# Altium schematic symbol library BMS.SchLib: 68 symbols (part 2 of 4)
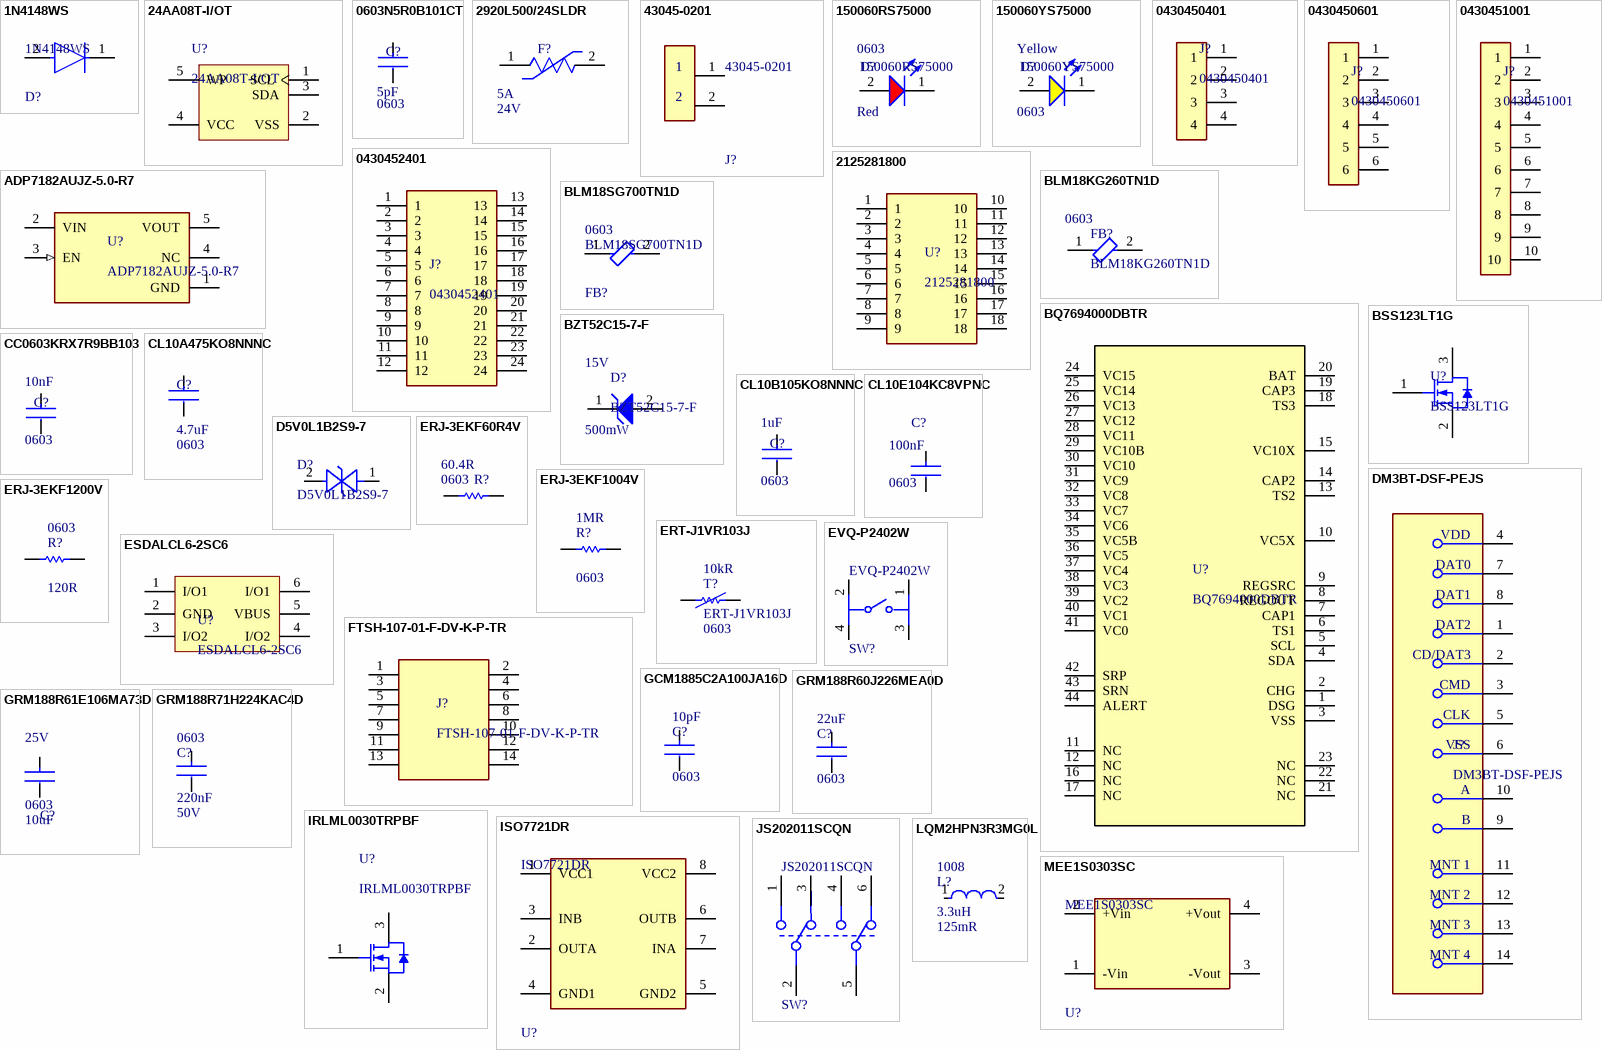
[diagram p2: symbols 1N4148WS to MEE1S0303SC]

## CL10B105KO8NNNC
designator C?  value 1uF  Case/Package: 0603  (hidden comment: CL10B105KO8NNNC)
CAP CER 1UF 16V X7R 0603; Manufacturer: Samsung; Dielectric Material: Ceramic; Multilayer: Yes; Tolerance  (fill in as +-): 10%; Supplier: Digikey; Supplier Part Number: 1276-1019-1-ND; Manufacturer Part Number: CL10B105KO8NNNC; RoHS: Yes; Category: Ceramic Capacitors; Stock: 3702903; Pricing: 1=0.08, 10=0.018, 100=0.0152, 1000=0.012 (USD); Mounting Technology: Surface Mount; Pins: 2; Package Shape: Rectangular; Terminal Finish: Nickel; Min Operating Temperature: -55°C; Max Operating Temperature: 125°C; JESD-609 Code: e3; Termination: Wraparound; Capacitor Type: Ceramic; Packaging: Tape and Reel; Tolerance (fill in as +-): 10%; Rated DC Voltage (URdc): 16V; Temperature Characteristics Code: X7R; Reach SVHC Compliant: Yes; RoHS Compliant: Yes; ComponentLink1URL: https://datasheet.ciiva.com:443/pdfs/VipMasterIC/IC/SEMS/SEMS-S-A0008529196/SEMS-S-A0008529196-1.pdf?src-supplier=IHS+Markit; ComponentLink1Description: https://datasheet.ciiva.com:443/pdfs/VipMasterIC/IC/SEMS/SEMS-S-A0008529196/SEMS-S-A0008529196-1.pdf?src-supplier=IHS+Markit; ComponentLink2URL: https://datasheet.ciiva.com/15195/getdatasheetpartid-357418-15195728.pdf?src-supplier=Verical; ComponentLink2Description: https://datasheet.ciiva.com/15195/getdatasheetpartid-357418-15195728.pdf?src-supplier=Verical; ComponentLink3URL: https://datasheet.ciiva.com/29198/458176-da-01-en-vs-kondensator-0603-29198478.pdf?src-supplier=Conrad; ComponentLink3Description: https://datasheet.ciiva.com/29198/458176-da-01-en-vs-kondensator-0603-29198478.pdf?src-supplier=Conrad
footprint C0603-V2
pins: 1, 2

## CL10E104KC8VPNC
designator C?  value 100nF  Case: 0603  (hidden comment: CL10E104KC8VPNC)
CAP CER 100NF 100V X8L 0603; Manufacturer: Samsung; Supplier: Digikey; Supplier Part Number: 1276-CL10E104KC8VPNCCT-ND; Manufacturer Part Number: CL10E104KC8VPNC; RoHS: No; Stock: 47712; Pricing: 1=0.27, 10=0.155, 50=0.1104, 100=0.0966, 500=0.07306, 1000=0.06573 (USD)
footprint C0603-V2
pins: 1, 2

## D5V0L1B2S9-7
designator D?
TVS DIODE 5VWM 14VC SOD923; Mfr_Name: Diodes Inc; Manufacturer: Diodes; Diode Element Material: SILICON; Package Body Material: Plastic; Polarity: Bidirectional; Max Breakdown Voltage: 8V; Min Breakdown Voltage: 6V; Diode Type: TRANS VOLTAGE SUPPRESSOR; Non-rep Peak Rev Power Dis-Max: 84W; Number of Elements: 1; Max Power Dissipation: 250mW; Rep Pk Reverse Voltage-Max: 5V; Supplier: Digikey; Supplier Part Number: D5V0L1B2S9-7DICT-ND; Manufacturer Part Number: D5V0L1B2S9-7; RoHS: Yes; Category: TVS Diodes; Stock: 757815; Pricing: 1=0.16, 10=0.109, 100=0.048, 500=0.043, 1000=0.038, 2000=0.037, 5000=0.036 (USD); Pins: 2; Package Shape: Rectangular; Terminal Finish: Tin; Min Operating Temperature: -65°C; Max Operating Temperature: 150°C; JESD-609 Code: e3; JESD-30 Code: R-PDSO-F2; Moisture Sensitivity Level: 1; Package Style: SMALL OUTLINEMeter; Surface Mount: Yes; Technology: AVALANCHE; Terminal Form: Flat; Terminal Position: DUAL; Reach SVHC Compliant: Yes; RoHS Compliant: Yes; ComponentLink1URL: https://datasheet.ciiva.com:443/pdfs/VipMasterIC/IC/DIOD/DIOD-S-A0001248739/DIOD-S-A0001248739-1.pdf?src-supplier=IHS+Markit; ComponentLink1Description: https://datasheet.ciiva.com:443/pdfs/VipMasterIC/IC/DIOD/DIOD-S-A0001248739/DIOD-S-A0001248739-1.pdf?src-supplier=IHS+Markit; ComponentLink2URL: https://datasheet.ciiva.com/48480/d5v0l1b2s9-48480055.pdf?src-supplier=Avnet; ComponentLink2Description: https://datasheet.ciiva.com/48480/d5v0l1b2s9-48480055.pdf?src-supplier=Avnet
footprint SOD923_DIO
pins: 1, 2

## DM3BT-DSF-PEJS
designator J?
CONN MICRO SD CARD PUSH-PUSH R/A; Manufacturer: Hirose; Connector Type: PCB; Option: General Purpose; Contact Pattern: RECTANGULAR; Contact Resistance: 100mR; Contact Style: COMPRESSION; Dielectric Withstanding Voltage (AC): 500V; Durability: 10000Cycles; Insulation Resistance: 1GR; Number Of Connectors: 1; Rated Current (Signal): 500mA; Number of Contacts: 8; Reference Standard: UL; DIN Conformance: No; Reliability: COMMERCIAL; Supplier: Digikey; Supplier Part Number: HR1942CT-ND; Manufacturer Part Number: DM3BT-DSF-PEJS; RoHS: Yes; Category: Memory Connectors; Stock: 2793; Pricing: 1=2.3, 10=1.874, 25=1.728, 50=1.6246, 100=1.5278, 250=1.40852, 500=1.32456 (USD); Mounting Technology: Board; Contact Material: Copper Alloy; Contact Finish - Mating: TIN; Contact Finish - Termination: TIN; Insulation Color: Black; Insulation Material: Polymer; Min Operating Temperature: -25°C; Max Operating Temperature: 85°C; JESD-609 Code: e3; Contact Gender: Male; Mounting Style: RIGHT ANGLE; Number Of PCB Rows: 1; Number of Ports: 1; Number of Rows Loaded: 1; PCB Contact Pattern: RECTANGULAR; Termination: SMD/SMT; Terminal Pitch: 1.0922mm; Reach SVHC Compliant: Yes; RoHS Compliant: Yes; IEC Conformance: No; MIL Conformance: No; ComponentLink1URL: https://datasheet.ciiva.com:443/pdfs/VipMasterIC/IC/HIRO/HIRO-S-A0003496442/HIRO-S-A0003496442-1.pdf?src-supplier=IHS+Markit; ComponentLink1Description: https://datasheet.ciiva.com:443/pdfs/VipMasterIC/IC/HIRO/HIRO-S-A0003496442/HIRO-S-A0003496442-1.pdf?src-supplier=IHS+Markit; ComponentLink2URL: https://datasheet.ciiva.com/683/doc-1806131255093-683387.pdf?src-supplier=Digikey; ComponentLink2Description: https://datasheet.ciiva.com/683/doc-1806131255093-683387.pdf?src-supplier=Digikey
footprint FP-DM3BT-DSF-PEJS-MFG
pins: 1 DAT2, 2 CD/DAT3, 3 CMD, 4 VDD, 5 CLK, 6 VSS, 7 DAT0, 8 DAT1, 9 B, 10 A, 11 MNT 1, 12 MNT 2, 13 MNT 3, 14 MNT 4

## ERJ-3EKF60R4V
designator R?  value 60.4R  Case/Package: 0603  (hidden comment: ERJ-3EKF60R4V)
RES SMD 60.4 OHM 1% 1/10W 0603; Manufacturer: Panasonic; Power Rating: 100mW; Voltage Rating: 75V; Temperature Coefficient: 100ppm/°C; Voltage Rating (DC): 50V; Supplier: Mouser; Supplier Part Number: 667-ERJ-3EKF60R4V; Manufacturer Part Number: ERJ-3EKF60R4V; RoHS: Yes; Category: Chip SMD Resistors; Stock: 70552; Pricing: 1=0.1, 10=0.019, 50=0.019, 100=0.012, 1000=0.009, 10000=0.005 (USD); Mounting Technology: Surface Mount; Case Code (Metric): 1608; Case Code (Imperial): 0603; Contact Plating: Tin; Min Operating Temperature: -55°C; Max Operating Temperature: 155°C; Tolerance: 1%; Packaging: Tape and Reel; Package Quantity: 1; Resistor Type: Thick Film; Number of Terminations: 2; Termination: SMD/SMT; Max Power Dissipation: 100mW; Features: Automotive AEC-Q200; Series: ERJ; Construction: Rectangular; Resistance Tolerance: 1%; Length: 1.6mm; Width: 0.8mm; Height: 0.022inch; Depth: 0.8mm; Reach SVHC Compliant: No; Military Standard: Not; Lead Free: Lead Free; RoHS Compliant: Yes; ComponentLink1URL: https://datasheet.ciiva.com/5951/426256-5951371.pdf?src-supplier=Farnell; ComponentLink1Description: https://datasheet.ciiva.com/5951/426256-5951371.pdf?src-supplier=Farnell; ComponentLink2URL: https://datasheet.ciiva.com/43460/426256-43460428.pdf?src-supplier=Farnell; ComponentLink2Description: https://datasheet.ciiva.com/43460/426256-43460428.pdf?src-supplier=Farnell; ComponentLink3URL: https://datasheet.ciiva.com/24068/aoa0000ce2-24068761.pdf?src-supplier=Mouser; ComponentLink3Description: https://datasheet.ciiva.com/24068/aoa0000ce2-24068761.pdf?src-supplier=Mouser; ComponentLink4URL: https://datasheet.ciiva.com/46377/426256-46377437.pdf?src-supplier=Element14; ComponentLink4Description: https://datasheet.ciiva.com/46377/426256-46377437.pdf?src-supplier=Element14; ComponentLink5URL: https://datasheet.ciiva.com/30163/aoa0000ce2-30163208.pdf?src-supplier=Onlinecomponents.com; ComponentLink5Description: https://datasheet.ciiva.com/30163/aoa0000ce2-30163208.pdf?src-supplier=Onlinecomponents.com; ComponentLink6URL: https://datasheet.ciiva.com/28594/1678782-28594695.pdf?src-supplier=Element14; ComponentLink6Description: https://datasheet.ciiva.com/28594/1678782-28594695.pdf?src-supplier=Element14; ComponentLink7URL: https://datasheet.ciiva.com/28677/1678782-28677676.pdf?src-supplier=Element14; ComponentLink7Description: https://datasheet.ciiva.com/28677/1678782-28677676.pdf?src-supplier=Element14; ComponentLink8URL: https://datasheet.ciiva.com/16757/70260748-16757877.pdf?src-supplier=Allied+Electronics; ComponentLink8Description: https://datasheet.ciiva.com/16757/70260748-16757877.pdf?src-supplier=Allied+Electronics; ComponentLink9URL: https://datasheet.ciiva.com/16783/70260748-16783402.pdf?src-supplier=Allied+Electronics; ComponentLink9Description: https://datasheet.ciiva.com/16783/70260748-16783402.pdf?src-supplier=Allied+Electronics
footprint R0603 (Chip Resistor, 2-Leads, Body 1.60x0.80mm, IPC Low Density)
pins: 1, 2

## ERJ-3EKF1004V
designator R?  value 1MR  Case/Package: 0603  (hidden comment: ERJ-3EKF1004V)
RES SMD 1M OHM 1% 1/10W 0603; Manufacturer: Panasonic; Power: 100mW; Rated Temperature: 70°C; Working Voltage: 75V; Temperature Coefficient (ppm/Cel): 100; Package Height: 0.45mm; Package Length: 1.6mm; Package Width: 0.8mm; Reference Standard: AEC-Q200; Supplier: Mouser; Supplier Part Number: 667-ERJ-3EKF1004V; Manufacturer Part Number: ERJ-3EKF1004V; RoHS: Yes; Category: Chip SMD Resistors; Stock: 176408; Pricing: 1=0.1, 10=0.02, 50=0.02, 100=0.012, 1000=0.01, 10000=0.004 (USD); Mounting Technology: Surface Mount; Pins: 2; Terminal Finish: Nickel; Package Shape: Rectangular; Min Operating Temperature: -55°C; Max Operating Temperature: 155°C; Tolerance: 1%; JESD-609 Code: e3; Resistor Type: FIXED RESISTOR; Construction: Rectangular; Packaging: Tape and Reel; Technology: METAL GLAZE/THICK FILM; Termination: Wraparound; Reach SVHC Compliant: Yes; RoHS Compliant: Yes; ComponentLink1URL: https://datasheet.ciiva.com:443/pdfs/VipMasterIC/IC/PANA/PANA-S-A0009889626/PANA-S-A0009889626-1.pdf?src-supplier=IHS+Markit; ComponentLink1Description: https://datasheet.ciiva.com:443/pdfs/VipMasterIC/IC/PANA/PANA-S-A0009889626/PANA-S-A0009889626-1.pdf?src-supplier=IHS+Markit; ComponentLink2URL: https://datasheet.ciiva.com/2432/aoa0000c304-2432473.pdf?src-supplier=Digikey; ComponentLink2Description: https://datasheet.ciiva.com/2432/aoa0000c304-2432473.pdf?src-supplier=Digikey
footprint R0603 (Chip Resistor, 2-Leads, Body 1.60x0.80mm, IPC Low Density)
pins: 1, 2

## ERJ-3EKF1200V
designator R?  value 120R  Case/Package: 0603  (hidden comment: ERJ-3EKF1200V)
RES SMD 120 OHM 1% 1/10W 0603; Manufacturer: Panasonic; Number of Terminals/Pins: 2; Power Rating: 100mW; Voltage Rating: 75V; Temperature Coefficient: 100ppm/°C; Supplier Part Number: 667-ERJ-3EKF1200V; Manufacturer Part Number: ERJ-3EKF1200V; RoHS: Yes; Category: Chip SMD Resistors; Stock: 58380; Pricing: 1=0.1, 10=0.02, 50=0.02, 100=0.012, 1000=0.009, 10000=0.005 (USD); Mounting Technology: Surface Mount; Pins: 2; Case Code (Metric): 1608; Case Code (Imperial): 0603; Contact Plating: Tin; Package Shape: Rectangular; Min Operating Temperature: -55°C; Max Operating Temperature: 155°C; Tolerance: 1%; Packaging: Tape and Reel; Package Quantity: 5000; Resistor Type: Thick Film; Number of Terminations: 2; Termination: SMD/SMT; Max Power Dissipation: 100mW; Voltage Rating (DC): 75V; Features: Automotive AEC-Q200; Technology: THICK FILM; Length: 1.6mm; Width: 0.8mm; Height: 0.45mm; Depth: 0.8mm; Radiation Hardening: No; Reach SVHC Compliant: Yes; Military Standard: Not; Lead Free: Lead Free; RoHS Compliant: Yes; ComponentLink1URL: http://www.farnell.com/datasheets/2647305.pdf?src-supplier=Farnell; ComponentLink1Description: http://www.farnell.com/datasheets/2647305.pdf?src-supplier=Farnell; ComponentLink2URL: http://www.farnell.com/datasheets/1911175.pdf?src-supplier=Farnell; ComponentLink2Description: http://www.farnell.com/datasheets/1911175.pdf?src-supplier=Farnell; ComponentLink3URL: http://www.farnell.com/datasheets/2647305.pdf?src-supplier=Element14; ComponentLink3Description: http://www.farnell.com/datasheets/2647305.pdf?src-supplier=Element14; ComponentLink4URL: https://datasheet.octopart.com/ERJ-3EKF1200V-Panasonic-datasheet-10025800.pdf?src-supplier=Element14; ComponentLink4Description: https://datasheet.octopart.com/ERJ-3EKF1200V-Panasonic-datasheet-10025800.pdf?src-supplier=Element14; ComponentLink5URL: https://datasheet.octopart.com/ERJ-3EKF1200V.-Panasonic-datasheet-136422778.pdf?src-supplier=Newark; ComponentLink5Description: https://datasheet.octopart.com/ERJ-3EKF1200V.-Panasonic-datasheet-136422778.pdf?src-supplier=Newark; ComponentLink6URL: http://industrial.panasonic.com/cdbs/www-data/pdf/RDA0000/AOA0000C304.pdf?src-supplier=Element14; ComponentLink6Description: http://industrial.panasonic.com/cdbs/www-data/pdf/RDA0000/AOA0000C304.pdf?src-supplier=Element14; ComponentLink7URL: http://www.farnell.com/datasheets/1678782.pdf?src-supplier=Element14; ComponentLink7Description: http://www.farnell.com/datasheets/1678782.pdf?src-supplier=Element14; ComponentLink8URL: http://industrial.panasonic.com/www-data/pdf/AOA0000/AOA0000CE2.pdf?src-supplier=Avnet; ComponentLink8Description: http://industrial.panasonic.com/www-data/pdf/AOA0000/AOA0000CE2.pdf?src-supplier=Avnet; ComponentLink9URL: https://datasheet.octopart.com/ERJ-3EKF1200V-Panasonic-datasheet-13266541.pdf?src-supplier=Farnell; ComponentLink9Description: https://datasheet.octopart.com/ERJ-3EKF1200V-Panasonic-datasheet-13266541.pdf?src-supplier=Farnell; ComponentLink10URL: https://datasheet.octopart.com/ERJ3EKF1200V-Panasonic-datasheet-138819429.pdf?src-supplier=TME; ComponentLink10Description: https://datasheet.octopart.com/ERJ3EKF1200V-Panasonic-datasheet-138819429.pdf?src-supplier=TME; ComponentLink11URL: https://datasheet.octopart.com/ERJ-3EKF1200V-Panasonic-datasheet-154766169.pdf?src-supplier=Master+Electronics; ComponentLink11Description: https://datasheet.octopart.com/ERJ-3EKF1200V-Panasonic-datasheet-154766169.pdf?src-supplier=Master+Electronics; ComponentLink12URL: https://datasheet.octopart.com/ERJ-3EKF1200V-Panasonic-datasheet-41391857.pdf?src-supplier=Electro+Sonic; ComponentLink12Description: https://datasheet.octopart.com/ERJ-3EKF1200V-Panasonic-datasheet-41391857.pdf?src-supplier=Electro+Sonic; Supplier: Mouser
footprint R0603 (Chip Resistor, 2-Leads, Body 1.60x0.80mm, IPC Low Density)
pins: 1, 2

## ERT-J1VR103J
designator T?  value 10kR  Case Code (Imperial): 0603
THERMISTOR NTC 10KOHM 4250K 0603; Manufacturer: Panasonic; Power Rating: 400mW; Tolerance: 5%; Max Power Dissipation: 100mW; Accuracy: 2%; Supplier: Mouser; Supplier Part Number: 667-ERT-J1VR103J; Manufacturer Part Number: ERT-J1VR103J; RoHS: Yes; Category: Thermistors; Stock: 48000; Pricing: 1=0.1, 10=0.079, 50=0.079, 100=0.074, 1000=0.059, 10000=0.047 (USD); Mounting Technology: Surface Mount; Case/Package: 0603; Pins: 2; Case Code (Metric): 1608; Min Operating Temperature: -40°C; Max Operating Temperature: 125°C; Packaging: Tape and Reel; Package Quantity: 4000; Termination: SMD/SMT; Series: ERT-J; Resistance Tolerance: 5%; Length: 1.6mm; Width: 800um; Depth: 0.8mm; Radiation Hardening: No; Reach SVHC Compliant: No; Lead Free: Lead Free; RoHS Compliant: Yes; ComponentLink1URL: https://datasheet.ciiva.com/15097/getdatasheetpartid-196842-15097753.pdf?src-supplier=Verical; ComponentLink1Description: https://datasheet.ciiva.com/15097/getdatasheetpartid-196842-15097753.pdf?src-supplier=Verical; ComponentLink2URL: https://datasheet.ciiva.com/2848/aua0000ce1-2848460.pdf?src-supplier=Digikey; ComponentLink2Description: https://datasheet.ciiva.com/2848/aua0000ce1-2848460.pdf?src-supplier=Digikey; ComponentLink3URL: https://datasheet.ciiva.com/2848/aua0000ce1-2848461.pdf?src-supplier=Digikey; ComponentLink3Description: https://datasheet.ciiva.com/2848/aua0000ce1-2848461.pdf?src-supplier=Digikey; ComponentLink4URL: https://datasheet.ciiva.com/2848/aua0000ce1-2848462.pdf?src-supplier=Digikey; ComponentLink4Description: https://datasheet.ciiva.com/2848/aua0000ce1-2848462.pdf?src-supplier=Digikey; ComponentLink5URL: https://datasheet.ciiva.com/1303/1314428-1303170.pdf?src-supplier=Farnell; ComponentLink5Description: https://datasheet.ciiva.com/1303/1314428-1303170.pdf?src-supplier=Farnell; ComponentLink6URL: https://datasheet.ciiva.com/24006/aua0000ce1-33779-24006121.pdf?src-supplier=Mouser; ComponentLink6Description: https://datasheet.ciiva.com/24006/aua0000ce1-33779-24006121.pdf?src-supplier=Mouser; ComponentLink7URL: https://datasheet.ciiva.com/28428/1790604-28428554.pdf?src-supplier=Element14; ComponentLink7Description: https://datasheet.ciiva.com/28428/1790604-28428554.pdf?src-supplier=Element14
footprint R0603 (Chip Resistor, 2-Leads, Body 1.60x0.80mm, IPC Low Density)
pins: 1, 2

## ESDALCL6-2SC6
designator U?
TVS DIODE 3VWM 17VC SOT23-6; Manufacturer: STMicroelectronics; Diode Element Material: SILICON; Package Body Material: Plastic; Polarity: Unidirectional; Min Breakdown Voltage: 6V; Clamping Voltage-Max: 17V; Diode Type: TRANS VOLTAGE SUPPRESSOR; Number of Elements: 1; Supplier: Newark; Supplier Part Number: 06X3442; Manufacturer Part Number: ESDALCL6-2SC6; RoHS: Yes; Category: TVS Diodes; Pins: 6; Package Shape: Rectangular; Terminal Finish: Tin; Min Operating Temperature: -40°C; Max Operating Temperature: 125°C; JESD-609 Code: e3; Breakdown Voltage-Nom: 6V; JESD-30 Code: R-PDSO-G6; Moisture Sensitivity Level: 1; Package Style: SMALL OUTLINEMeter; Peak Reflow Temperature (Cel): 260°C; Surface Mount: Yes; Technology: AVALANCHE; Terminal Form: Gull Wing; Terminal Position: DUAL; Reach SVHC Compliant: Yes; RoHS Compliant: Yes; ComponentLink1URL: https://datasheet.ciiva.com:443/pdfs/VipMasterIC/IC/SGST/SGSTS36157/SGSTS36157-1.pdf?src-supplier=IHS+Markit; ComponentLink1Description: https://datasheet.ciiva.com:443/pdfs/VipMasterIC/IC/SGST/SGSTS36157/SGSTS36157-1.pdf?src-supplier=IHS+Markit; ComponentLink2URL: https://datasheet.ciiva.com/29883/dm00068844-29883857.pdf?src-supplier=Avnet; ComponentLink2Description: https://datasheet.ciiva.com/29883/dm00068844-29883857.pdf?src-supplier=Avnet; ComponentLink3URL: https://datasheet.ciiva.com/41443/001184005-da-01-en-tvs-diodes-esdalcl6-2sc6-sot-23-6-stm-41443461.pdf?src-supplier=Conrad; ComponentLink3Description: https://datasheet.ciiva.com/41443/001184005-da-01-en-tvs-diodes-esdalcl6-2sc6-sot-23-6-stm-41443461.pdf?src-supplier=Conrad; ComponentLink4URL: https://datasheet.ciiva.com/6575/dm00068844-6575530.pdf?src-supplier=Digikey; ComponentLink4Description: https://datasheet.ciiva.com/6575/dm00068844-6575530.pdf?src-supplier=Digikey; ComponentLink5URL: https://datasheet.ciiva.com/6575/dm00068844-6575531.pdf?src-supplier=Digikey; ComponentLink5Description: https://datasheet.ciiva.com/6575/dm00068844-6575531.pdf?src-supplier=Digikey; ComponentLink6URL: https://datasheet.ciiva.com/6575/dm00068844-6575532.pdf?src-supplier=Digikey; ComponentLink6Description: https://datasheet.ciiva.com/6575/dm00068844-6575532.pdf?src-supplier=Digikey
footprint ESDALCL6-2SC6
pins: 1 I/O1, 2 GND, 3 I/O2, 4 I/O2, 5 VBUS, 6 I/O1

## EVQ-P2402W
designator SW?
SWITCH TACTILE SPST-NO 0.02A 15V; Manufacturer: Panasonic; Manufacturer Series: EVQP2; Illumination Type: Non-Illuminated; Current Rating: 20mA; Throw Configuration: SPST; Switch Travel: 0.25mm; Mechanical Life: 500000Cycles; Actuator Length: 0.85mm; Switch Function: Off-Mom; Actuator Color: Natural; Operating Force: 2.4N; Contact Resistance: 100mR; Circuit Configuration: 1X1; Contact Bounce Time-Max: 10ms; Contact DC Max Rating R Load: .02A@15VDC; Number of Switches: 1; Switch Action: MOMENTARY; Switch Type: Keypad; Body Breadth: 3.5mm; Body Height: 1.65mm; Body Length or Diameter: 4.7mm; Width: 3.5mm; Size: 3.5mm; Packaging: Tape and Reel; Mount: Surface Mount; Max Voltage Rating (DC): 15V; Min Operating Temperature: -40°C; Orientation: Straight; Package Quantity: 1; Height: 2.5mm; Contact Plating: Silver; Termination: J-Bend; Max Operating Temperature: 85°C; Contact Current Rating: 20mA; Series: EVQP2; Voltage Rating (DC): 15V; Depth: 5.5mm; Max Current Rating: 20mA; Electrical Life: 500000Cycles; REACH SVHC: No SVHC; RoHS Compliant: Yes; Radiation Hardening: No; Lead Free: Lead Free; Length: 4.7mm; Supplier: Mouser; Supplier Part Number: 667-EVQ-P2402W; Manufacturer Part Number: EVQ-P2402W; RoHS: Yes; Category: Tactile Switches; Stock: 21943; Pricing: 1=0.74, 10=0.603, 50=0.603, 100=0.488, 1000=0.415, 10000=0.319 (USD); Mounting Technology: Surface Mount; Terminal Finish: Gold; JESD-609 Code: e4; Contact Current(DC)-Max: 20mA; Contact Voltage(DC)-Max: 15V; Operating Force-Max: 2.4N; Reach SVHC Compliant: Yes; ComponentLink1URL: https://datasheet.ciiva.com:443/pdfs/VipMasterIC/IC/PANA/PANAS38695/PANAS38695-1.pdf?src-supplier=IHS+Markit; ComponentLink1Description: https://datasheet.ciiva.com:443/pdfs/VipMasterIC/IC/PANA/PANAS38695/PANAS38695-1.pdf?src-supplier=IHS+Markit; ComponentLink2URL: https://datasheet.ciiva.com/25603/0900766b810ad3e5-25603951.pdf?src-supplier=Rs; ComponentLink2Description: https://datasheet.ciiva.com/25603/0900766b810ad3e5-25603951.pdf?src-supplier=Rs; ComponentLink3URL: https://datasheet.ciiva.com/2901/atk0000ce6-2901462.pdf?src-supplier=Digikey; ComponentLink3Description: https://datasheet.ciiva.com/2901/atk0000ce6-2901462.pdf?src-supplier=Digikey; ComponentLink4URL: https://datasheet.ciiva.com/2901/atk0000ce6-2901463.pdf?src-supplier=Digikey; ComponentLink4Description: https://datasheet.ciiva.com/2901/atk0000ce6-2901463.pdf?src-supplier=Digikey; ComponentLink5URL: https://datasheet.ciiva.com/2901/atk0000ce6-2901464.pdf?src-supplier=Digikey; ComponentLink5Description: https://datasheet.ciiva.com/2901/atk0000ce6-2901464.pdf?src-supplier=Digikey; ComponentLink6URL: https://datasheet.ciiva.com/8166/atv0000ce7-8166415.pdf?src-supplier=Avnet; ComponentLink6Description: https://datasheet.ciiva.com/8166/atv0000ce7-8166415.pdf?src-supplier=Avnet; ComponentLink7URL: https://datasheet.ciiva.com/30238/atv0000ce7-30238297.pdf?src-supplier=Onlinecomponents.com; ComponentLink7Description: https://datasheet.ciiva.com/30238/atv0000ce7-30238297.pdf?src-supplier=Onlinecomponents.com
footprint FP-EVQ-P2402W-MFG
pins: 1, 2, 3, 4

## FTSH-107-01-F-DV-K-P-TR
designator J?
CONN HEADER SMD 14POS 1.27MM; Manufacturer: Samtec; Connector Type: BOARD CONNECTOR; Contact Pattern: RECTANGULAR; Contact Style: SQ PIN-SKT; Number Of Connectors: 1; Number Of PCB Rows: 2; Number of Contacts: 14; Body Breadth: 0.135inch; Body Length: 0.35inch; Mating Contact Pitch: 0.05inch; Mounting Option 1: LOCKING; PCB Contact Row Spacing: 4.064mm; Plating Thickness: 3uin; Reference Standard: UL; Reliability: COMMERCIAL; Supplier: Avnet; Supplier Part Number: FTSH-107-01-F-DV-K-P-TR; Manufacturer Part Number: FTSH-107-01-F-DV-K-P-TR; RoHS: Yes; Category: Headers and Wire Housings; Stock: 1872; Pricing: 400=2.37529, 800=2.0349, 1600=1.7286, 2400=1.6884, 3200=1.4396 (USD); Mounting Technology: Board; Contact Material: Bronze; Contact Finish - Mating: AU ON NI; Contact Finish - Termination: Tin (Sn) - with Nickel (Ni) barrier; Insulation Material: Polymer; JESD-609 Code: e3; Contact Gender: Male; Mounting Style: STRAIGHT; Number of Rows Loaded: 2; PCB Contact Pattern: RECTANGULAR; Termination: SMD/SMT; Mating Contact Row Spacing: 0.05inch; Terminal Pitch: 1.27mm; Reach SVHC Compliant: Yes; RoHS Compliant: Yes; ComponentLink1URL: https://datasheet.ciiva.com:443/pdfs/VipMasterIC/IC/SAMI/SAMI-S-A0002896813/SAMI-S-A0002896813-1.pdf?src-supplier=IHS+Markit; ComponentLink1Description: https://datasheet.ciiva.com:443/pdfs/VipMasterIC/IC/SAMI/SAMI-S-A0002896813/SAMI-S-A0002896813-1.pdf?src-supplier=IHS+Markit; ComponentLink2URL: https://datasheet.ciiva.com/10037/ftsh-mt-10037030.pdf?src-supplier=Avnet; ComponentLink2Description: https://datasheet.ciiva.com/10037/ftsh-mt-10037030.pdf?src-supplier=Avnet
footprint SAMTEC_FTSH-107-01-F-DV-K-P-TR
pins: 1, 2, 3, 4, 5, 6, 7, 8, 9, 10, 11, 12, 13, 14

## GCM1885C2A100JA16D
designator C?  value 10pF  Case/Package: 0603  (hidden comment: GCM1885C2A100JA16D)
CAP CER 10PF 100V C0G/NP0 0603; Manufacturer: Murata; Dielectric Material: Ceramic; Multilayer: Yes; Tolerance  (fill in as +-): 5%; Temperature Characteristics Code: C0G; Reference Standard: AEC-Q200; Supplier: Mouser; Supplier Part Number: 81-GCM1885C2A100JA6D; Manufacturer Part Number: GCM1885C2A100JA16D; RoHS: Yes; Category: Ceramic Capacitors; Stock: 25975; Pricing: 1=0.1, 10=0.028, 50=0.028, 100=0.019, 1000=0.017, 10000=0.011 (USD); Mounting Technology: Surface Mount; Pins: 2; Package Shape: Rectangular; Terminal Finish: Nickel; Min Operating Temperature: -55°C; Max Operating Temperature: 125°C; JESD-609 Code: e3; Capacitor Type: Ceramic; Package Style: SMTMeter; Packaging: Tape and Reel; Tolerance (fill in as +-): 5%; Rated DC Voltage (URdc): 100V; Termination: Wraparound; Length: 1.6mm; Width: 0.8mm; Height: 0.9mm; Reach SVHC Compliant: Yes; RoHS Compliant: Yes; ComponentLink1URL: https://datasheet.ciiva.com:443/pdfs/VipMasterIC/IC/MURE/MURE-S-A0004365318/MURE-S-A0004370306-1.pdf?src-supplier=IHS+Markit; ComponentLink1Description: https://datasheet.ciiva.com:443/pdfs/VipMasterIC/IC/MURE/MURE-S-A0004365318/MURE-S-A0004370306-1.pdf?src-supplier=IHS+Markit; ComponentLink2URL: https://datasheet.ciiva.com/133/product-133480.pdf?src-supplier=Digikey; ComponentLink2Description: https://datasheet.ciiva.com/133/product-133480.pdf?src-supplier=Digikey; ComponentLink3URL: https://datasheet.ciiva.com/133/product-133481.pdf?src-supplier=Digikey; ComponentLink3Description: https://datasheet.ciiva.com/133/product-133481.pdf?src-supplier=Digikey; ComponentLink4URL: https://datasheet.ciiva.com/133/product-133482.pdf?src-supplier=Digikey; ComponentLink4Description: https://datasheet.ciiva.com/133/product-133482.pdf?src-supplier=Digikey; ComponentLink5URL: https://datasheet.ciiva.com/18183/getdatasheetpartid-307287-18183583.pdf?src-supplier=Verical; ComponentLink5Description: https://datasheet.ciiva.com/18183/getdatasheetpartid-307287-18183583.pdf?src-supplier=Verical; ComponentLink6URL: https://datasheet.ciiva.com/11607/product-11607353.pdf?src-supplier=Avnet; ComponentLink6Description: https://datasheet.ciiva.com/11607/product-11607353.pdf?src-supplier=Avnet
footprint C0603-V2
pins: 1, 2

## GRM188R60J226MEA0D
designator C?  value 22uF  Case/Package: 0603  (hidden comment: GRM188R60J226MEA0D)
CAP CER 22UF 6.3V X5R 0603; Manufacturer: Murata; Dielectric Material: Ceramic; Multilayer: Yes; Tolerance  (fill in as +-): 20%; Supplier: Mouser; Supplier Part Number: 81-GRM188R60J226ME0D; Manufacturer Part Number: GRM188R60J226MEA0D; RoHS: Yes; Category: Ceramic Capacitors; Stock: 837789; Pricing: 1=0.1, 10=0.026, 50=0.026, 100=0.024, 1000=0.024, 10000=0.024 (USD); Mounting Technology: Surface Mount; Pins: 2; Package Shape: Rectangular; Terminal Finish: Nickel; Min Operating Temperature: -55°C; Max Operating Temperature: 85°C; JESD-609 Code: e3; Package Style: SMTMeter; Capacitor Type: Ceramic; Packaging: Tape and Reel; Tolerance (fill in as +-): 20%; Rated DC Voltage (URdc): 6.3V; Temperature Characteristics Code: X5R; Termination: Wraparound; Length: 1.6mm; Width: 0.8mm; Height: 0.8mm; Reach SVHC Compliant: Yes; RoHS Compliant: Yes; ComponentLink1URL: https://datasheet.ciiva.com:443/pdfs/VipMasterIC/IC/MURE/MURE-S-A0004349797/MURE-S-A0004352371-1.pdf?src-supplier=IHS+Markit; ComponentLink1Description: https://datasheet.ciiva.com:443/pdfs/VipMasterIC/IC/MURE/MURE-S-A0004349797/MURE-S-A0004352371-1.pdf?src-supplier=IHS+Markit; ComponentLink2URL: https://datasheet.ciiva.com/29540/partnumbering-e-01-29540441.pdf?src-supplier=Digikey; ComponentLink2Description: https://datasheet.ciiva.com/29540/partnumbering-e-01-29540441.pdf?src-supplier=Digikey; ComponentLink3URL: https://datasheet.ciiva.com/29540/partnumbering-e-01-29540442.pdf?src-supplier=Digikey; ComponentLink3Description: https://datasheet.ciiva.com/29540/partnumbering-e-01-29540442.pdf?src-supplier=Digikey; ComponentLink4URL: https://datasheet.ciiva.com/29540/partnumbering-e-01-29540443.pdf?src-supplier=Digikey; ComponentLink4Description: https://datasheet.ciiva.com/29540/partnumbering-e-01-29540443.pdf?src-supplier=Digikey
footprint C0603-V2
pins: 1, 2

## GRM188R61E106MA73D
designator C?  value 10uF  Case/Package: 0603  Voltage: 25V  (hidden comment: GRM188R61E106MA73D)
CAP CER 10UF 25V X5R 0603; Manufacturer: Murata; Tolerance: 20%; Dielectric Material: Ceramic; Multilayer: Yes; Resistor Type: Ceramic; Max Operating Temperature: 85°C; Min Operating Temperature: -55°C; Capacitance: 10uF; Dielectric: X5R; Lead Free: Lead Free; REACH SVHC: No SVHC; Mount: Surface Mount; Voltage Rating (DC): 25V; Height: 0.8mm; Length: 1.6mm; Thickness: 0.031inch; Width: 0.031inch; Termination: SMD/SMT; Case Code (Imperial): 0603; Case Code (Metric): 1608; Package Quantity: 1; Packaging: Tape and Reel; Depth: 0.8mm; Voltage Rating: 25V; Weight: 0.000222oz; Number of Pins: 2; Supplier: Mouser; Supplier Part Number: 81-GRM188R61E106MA3D; Manufacturer Part Number: GRM188R61E106MA73D; RoHS: Yes; Category: Ceramic Capacitors; Stock: 623980; Pricing: 1=0.18, 10=0.054, 50=0.054, 100=0.046, 1000=0.044, 4000=0.04, 10000=0.04 (USD); Mounting Technology: Surface Mount; Pins: 2; Package Shape: Rectangular; Terminal Finish: Nickel; JESD-609 Code: e3; Capacitor Type: Ceramic; Tolerance  (fill in as +-): 20%; Package Style: SMTMeter; Tolerance (fill in as +-): 20%; Rated DC Voltage (URdc): 25V; Temperature Characteristics Code: X5R; Reach SVHC Compliant: Yes; RoHS Compliant: Yes; ComponentLink1URL: https://psearch.en.murata.com:443/capacitor/product/GRM188R61E106MA73%23.pdf?src-supplier=IHS+Markit; ComponentLink1Description: https://psearch.en.murata.com:443/capacitor/product/GRM188R61E106MA73%23.pdf?src-supplier=IHS+Markit; ComponentLink2URL: https://datasheet.ciiva.com/14906/partnumbering-e-01-14906429.pdf?src-supplier=Digikey; ComponentLink2Description: https://datasheet.ciiva.com/14906/partnumbering-e-01-14906429.pdf?src-supplier=Digikey; ComponentLink3URL: https://datasheet.ciiva.com/14906/partnumbering-e-01-14906431.pdf?src-supplier=Digikey; ComponentLink3Description: https://datasheet.ciiva.com/14906/partnumbering-e-01-14906431.pdf?src-supplier=Digikey; ComponentLink4URL: https://datasheet.ciiva.com/22776/608985-22776426.pdf?src-supplier=Farnell; ComponentLink4Description: https://datasheet.ciiva.com/22776/608985-22776426.pdf?src-supplier=Farnell; ComponentLink5URL: https://datasheet.ciiva.com/22776/c02e-22776427.pdf?src-supplier=Farnell; ComponentLink5Description: https://datasheet.ciiva.com/22776/c02e-22776427.pdf?src-supplier=Farnell; ComponentLink6URL: https://datasheet.ciiva.com/22619/c02e-22619674.pdf?src-supplier=Element14; ComponentLink6Description: https://datasheet.ciiva.com/22619/c02e-22619674.pdf?src-supplier=Element14
footprint C0603
pins: 1, 2

## GRM188R71H224KAC4D
designator C?  value 220nF  Voltage Rating: 50V  Case Code (Imperial): 0603  (hidden comment: GRM188R71H224KAC4D)
CAP CER 0.22UF 50V X7R 0603; Manufacturer: Murata; Manufacturer Lifecycle Status: IN PRODUCTION; Dielectric Material: Ceramic; Tolerance: 10%; Supplier: Avnet; Supplier Part Number: GRM188R71H224KAC4D; Manufacturer Part Number: GRM188R71H224KAC4D; RoHS: Compliant; Category: Ceramic Capacitors; Stock: 36000; Pricing: 4000=0.01597, 8000=0.0158, 16000=0.01571, 24000=0.01563, 32000=0.01555 (USD); Case/Package: 0603; Case Code (Metric): 1608; Dielectric: X7R; Height: 800µm; Lead Free: Lead Free; Length: 1.6mm; Lifecycle Status: Production; Material: Ceramic; Max Operating Temperature: 125°C; Min Operating Temperature: -55°C; Mounting Technology: Surface Mount; Number of Terminals: 2; REACH SVHC: Yes; Schedule B: 8532240020, 8532240020|8532240020, 8532240020|8532240020|8532240020, 8532240020|8532240020|8532240020|8532240020; Thickness: 800µm; Voltage Rating (DC): 50V; Width: 800µm; ComponentLink1URL: https://datasheet.octopart.com:443/GRM188R71H224KAC4D-Murata-datasheet-149523289.pdf?src-supplier=Newark; ComponentLink1Description: https://datasheet.octopart.com:443/GRM188R71H224KAC4D-Murata-datasheet-149523289.pdf?src-supplier=Newark; ComponentLink2URL: https://datasheet.octopart.com:443/GRM188R71H224KAC4D-Murata-datasheet-68590313.pdf?src-supplier=Newark; ComponentLink2Description: https://datasheet.octopart.com:443/GRM188R71H224KAC4D-Murata-datasheet-68590313.pdf?src-supplier=Newark; ComponentLink3URL: https://datasheet.octopart.com:443/GRM188R71H224KAC4D-Murata-datasheet-141275521.pdf?src-supplier=Geoflip; ComponentLink3Description: https://datasheet.octopart.com:443/GRM188R71H224KAC4D-Murata-datasheet-141275521.pdf?src-supplier=Geoflip; ComponentLink4URL: https://datasheet.octopart.com/GRM188R71H224KAC4D-Murata-datasheet-13366452.pdf; ComponentLink4Description: https://datasheet.octopart.com/GRM188R71H224KAC4D-Murata-datasheet-13366452.pdf; ComponentLink5URL: https://datasheet.octopart.com/GRM188R71H224KAC4D-Murata-datasheet-12515295.pdf; ComponentLink5Description: https://datasheet.octopart.com/GRM188R71H224KAC4D-Murata-datasheet-12515295.pdf; ComponentLink6URL: https://datasheet.octopart.com/GRM188R71H224KAC4D-Murata-datasheet-12510076.pdf; ComponentLink6Description: https://datasheet.octopart.com/GRM188R71H224KAC4D-Murata-datasheet-12510076.pdf; ComponentLink7URL: https://datasheet.octopart.com/GRM188R71H224KAC4D-Murata-datasheet-11978611.pdf; ComponentLink7Description: https://datasheet.octopart.com/GRM188R71H224KAC4D-Murata-datasheet-11978611.pdf; ComponentLink8URL: https://datasheet.octopart.com/GRM188R71H224KAC4D-Murata-datasheet-10025737.pdf; ComponentLink8Description: https://datasheet.octopart.com/GRM188R71H224KAC4D-Murata-datasheet-10025737.pdf; ComponentLink9URL: https://datasheet.octopart.com/GRM188R71H224KAC4D-Murata-datasheet-8819587.pdf; ComponentLink9Description: https://datasheet.octopart.com/GRM188R71H224KAC4D-Murata-datasheet-8819587.pdf; ComponentLink10URL: https://datasheet.octopart.com:443/GRM188R71H224KAC4D-Murata-datasheet-165579666.pdf?src-supplier=TME; ComponentLink10Description: https://datasheet.octopart.com:443/GRM188R71H224KAC4D-Murata-datasheet-165579666.pdf?src-supplier=TME; ComponentLink11URL: https://datasheet.octopart.com:443/GRM188R71H224KAC4D-Murata-datasheet-140705679.pdf?src-supplier=Ciiva; ComponentLink11Description: https://datasheet.octopart.com:443/GRM188R71H224KAC4D-Murata-datasheet-140705679.pdf?src-supplier=Ciiva; ComponentLink12URL: https://datasheet.octopart.com:443/GRM188R71H224KAC4D-Murata-datasheet-138743219.pdf?src-supplier=Ciiva; ComponentLink12Description: https://datasheet.octopart.com:443/GRM188R71H224KAC4D-Murata-datasheet-138743219.pdf?src-supplier=Ciiva; ComponentLink13URL: https://datasheet.octopart.com:443/GRM188R71H224KAC4D-Murata-datasheet-14397325.pdf?src-supplier=Future+Electronics; ComponentLink13Description: https://datasheet.octopart.com:443/GRM188R71H224KAC4D-Murata-datasheet-14397325.pdf?src-supplier=Future+Electronics; ComponentLink14URL: https://datasheet.octopart.com:443/GRM188R71H224KAC4D-Murata-datasheet-150009171.pdf?src-supplier=Arrow.cn; ComponentLink14Description: https://datasheet.octopart.com:443/GRM188R71H224KAC4D-Murata-datasheet-150009171.pdf?src-supplier=Arrow.cn; ComponentLink15URL: http://sigma.octopart.com:80/reach_statement/Murata-company-16.pdf?src-supplier=Compliance+Statements; ComponentLink15Description: http://sigma.octopart.com:80/reach_statement/Murata-company-16.pdf?src-supplier=Compliance+Statements
footprint C0603
pins: 1, 2

## IRLML0030TRPBF
designator U?
MOSFET N-CH 30V 5.3A SOT23; Manufacturer: Infineon; Manufacturer Part Number: IRLML6344TRPBF; Continuous Drain Current (ID): 5A; Input Capacitance: 650pF; Max Power Dissipation: 1.3W; Threshold Voltage: 800mV; Fall Time: 9.1ns; Recovery Time: 15ns; Turn-Off Delay Time: 22ns; Turn-On Delay Time: 4.2ns; Rds On Max: 29mR; Drain to Source Resistance: 22mR; Element Configuration: Single; Number of Channels: 1; Value: 37MR; Package Body Material: Plastic; Transistor Element Material: SILICON; Polarity/Channel Type: N-CHANNEL; Additional Feature: HIGH RELIABILITY; Drain-source On Resistance-Max: 27mR; FET Technology: METAL-OXIDE SEMICONDUCTOR; Operating Mode: ENHANCEMENT MODE; Pulsed Drain Current-Max (IDM): 21A; Time @ Peak Reflow Temperature-Max (s): 30s; Transistor Application: SWITCHING; JEDEC-95 Code: TO-236AB; Qualification Status: Not Qualified; Supplier: Mouser; Supplier Part Number: 942-IRLML6344TRPBF; RoHS: Yes; Category: MOSFETs; Stock: 165119; Pricing: 1=0.43, 10=0.286, 50=0.286, 100=0.168, 1000=0.137, 10000=0.097 (USD); Mounting Technology: Surface Mount; Case/Package: SOT-23; Pins: 3; Min Operating Temperature: -55°C; Max Operating Temperature: 150°C; Drain to Source Voltage (Vdss): 30V; Nominal Vgs: 800mV; Packaging: Cut Tape; Max Dual Supply Voltage: 30V; Series: HEXFET®; Drain to Source Breakdown Voltage: 30V; Number of Elements: 1; On-State Resistance: 29mR; Package Quantity: 3000; Power Dissipation: 1.3W; Length: 3.04mm; Width: 1.4mm; Height: 1.02mm; Radiation Hardening: No; Reach SVHC Compliant: No; Lead Free: Lead Free; RoHS Compliant: Yes; Halogen Free: Halogen Free; ComponentLink1URL: http://www.farnell.com/datasheets/1911844.pdf?src-supplier=Farnell; ComponentLink1Description: http://www.farnell.com/datasheets/1911844.pdf?src-supplier=Farnell; ComponentLink2URL: https://www.infineon.com/dgdl/irlml6344pbf.pdf?fileId=5546d462533600a4015356689c44262c&src-supplier=Digikey; ComponentLink2Description: https://www.infineon.com/dgdl/irlml6344pbf.pdf?fileId=5546d462533600a4015356689c44262c&src-supplier=Digikey; ComponentLink3URL: https://datasheet.octopart.com/IRLML6344TRPBF-Infineon-datasheet-41230536.pdf?src-supplier=Element14; ComponentLink3Description: https://datasheet.octopart.com/IRLML6344TRPBF-Infineon-datasheet-41230536.pdf?src-supplier=Element14; ComponentLink4URL: http://www.farnell.com/datasheets/1911844.pdf?src-supplier=Element14; ComponentLink4Description: http://www.farnell.com/datasheets/1911844.pdf?src-supplier=Element14; ComponentLink5URL: https://www.infineon.com/dgdl/irlml6344pbf.pdf?fileId=5546d462533600a4015356689c44262c&src-supplier=Mouser; ComponentLink5Description: https://www.infineon.com/dgdl/irlml6344pbf.pdf?fileId=5546d462533600a4015356689c44262c&src-supplier=Mouser; ComponentLink6URL: https://datasheet.octopart.com/IRLML6344TRPBF-Infineon-datasheet-166549069.pdf?src-supplier=Newark; ComponentLink6Description: https://datasheet.octopart.com/IRLML6344TRPBF-Infineon-datasheet-166549069.pdf?src-supplier=Newark; ComponentLink7URL: https://www.infineon.com/dgdl/irlml6344pbf.pdf?fileId=5546d462533600a4015356689c44262c&src-supplier=Rs; ComponentLink7Description: https://www.infineon.com/dgdl/irlml6344pbf.pdf?fileId=5546d462533600a4015356689c44262c&src-supplier=Rs; ComponentLink8URL: http://datasheet.octopart.com/IRLML6344TRPBF-Infineon-datasheet-10031181.pdf?src-supplier=Future+Electronics; ComponentLink8Description: http://datasheet.octopart.com/IRLML6344TRPBF-Infineon-datasheet-10031181.pdf?src-supplier=Future+Electronics; ComponentLink9URL: https://www.infineon.com/dgdl/irlml6344pbf.pdf?fileId=5546d462533600a4015356689c44262c&src-supplier=Allied+Electronics; ComponentLink9Description: https://www.infineon.com/dgdl/irlml6344pbf.pdf?fileId=5546d462533600a4015356689c44262c&src-supplier=Allied+Electronics; ComponentLink10URL: https://datasheet.octopart.com/IRLML6344TRPBF-Infineon-datasheet-10031181.pdf?src-supplier=Farnell; ComponentLink10Description: https://datasheet.octopart.com/IRLML6344TRPBF-Infineon-datasheet-10031181.pdf?src-supplier=Farnell; ComponentLink11URL: https://www.infineon.com/dgdl/irlml6344pbf.pdf?fileId=5546d462533600a4015356689c44262c&src-supplier=Arrow+Electronics; ComponentLink11Description: https://www.infineon.com/dgdl/irlml6344pbf.pdf?fileId=5546d462533600a4015356689c44262c&src-supplier=Arrow+Electronics; ComponentLink12URL: http://www.farnell.com/datasheets/1911844.pdf?src-supplier=Newark; ComponentLink12Description: http://www.farnell.com/datasheets/1911844.pdf?src-supplier=Newark; Package Shape: Rectangular; Terminal Finish: Tin; Moisture Sensitivity Level: 1; Package Style: SMALL OUTLINEMeter; JESD-609 Code: e3; Drain Current-Max (Abs) (ID): 5.3A; Drain Current-Max (ID): 5.3A; DS Breakdown Voltage-Min: 30V; JESD-30 Code: R-PDSO-G3; Peak Reflow Temperature (Cel): 260°C; Power Dissipation-Max (Abs): 1.3W; Surface Mount: Yes; Terminal Form: Gull Wing; Terminal Position: DUAL; ComponentLink13URL: https://datasheet.ciiva.com:443/pdfs/VipMasterIC/IC/IRSD/IRSDS12101/IRSDS12101-1.pdf?src-supplier=IHS+Markit; ComponentLink13Description: https://datasheet.ciiva.com:443/pdfs/VipMasterIC/IC/IRSD/IRSDS12101/IRSDS12101-1.pdf?src-supplier=IHS+Markit; ComponentLink14URL: https://datasheet.ciiva.com/7870/irlml0030pbf-7870445.pdf?src-supplier=Element14; ComponentLink14Description: https://datasheet.ciiva.com/7870/irlml0030pbf-7870445.pdf?src-supplier=Element14; ComponentLink15URL: https://datasheet.ciiva.com/29325/161180-da-01-en-mosfet-irlml0030trpbf-sot23-ir-29325511.pdf?src-supplier=Conrad; ComponentLink15Description: https://datasheet.ciiva.com/29325/161180-da-01-en-mosfet-irlml0030trpbf-sot23-ir-29325511.pdf?src-supplier=Conrad
footprint IRLML6344TRPBF
pins: 1 G, 2 S, 3 D

## ISO7721DR
designator U?
DGTL ISOLTR 3KV 2CH GP 8-SOIC; Manufacturer: Texas Instruments; Isolated Power: No; Channel Type: Unidirectional; Pulse Width Distortion (PWD): 4.9ns; Propagation Delay: 16ns; Number of Channels: 2; Data Rate: 100Mbps; Package Body Material: Plastic; Throw Configuration: ANALOG CIRCUIT; Channels: 1; Max Supply Voltage: 5.5V; Min Supply Voltage: 2.25V; Nominal Supply Voltage: 2.5V; Case/Package: SOIC; Number of Pins: 8; Min Operating Temperature: -55°C; Max Operating Temperature: 125°C; Type: General Purpose; Packaging: Tape and Reel; Mount: Surface Mount; Supplier: Mouser; Supplier Part Number: 595-ISO7721DR; Manufacturer Part Number: ISO7721DR; RoHS: Yes; Category: Interface ICs; Stock: 672; Pricing: 1=1.66, 10=1.11, 50=1.11, 100=0.982, 1000=0.86, 10000=0.774 (USD); Pins: 8; Package Shape: Rectangular; Terminal Finish: Nickel; JESD-609 Code: e4; JESD-30 Code: R-PDSO-G8; Moisture Sensitivity Level: 2; Package Style: SMALL OUTLINEMeter; Surface Mount: Yes; Terminal Form: Gull Wing; Terminal Position: DUAL; Length: 4.905mm; Width: 3.895mm; Height - Seated (Max): 1.75mm; Terminal Pitch: 1.27mm; Temperature Grade: MILITARY; Reach SVHC Compliant: Yes; RoHS Compliant: Yes; ComponentLink1URL: https://www.ti.com:443/lit/ds/symlink/iso7720.pdf?src-supplier=IHS+Markit; ComponentLink1Description: https://www.ti.com:443/lit/ds/symlink/iso7720.pdf?src-supplier=IHS+Markit; ComponentLink2URL: http://www.ti.com/lit/ds/symlink/iso7720.pdf?src-supplier=Digikey; ComponentLink2Description: http://www.ti.com/lit/ds/symlink/iso7720.pdf?src-supplier=Digikey; ComponentLink3URL: http://www.ti.com/general/docs/suppproductinfo.tsp?distId=10&amp;gotoUrl=http%3A%2F%2Fwww.ti.com%2Flit%2Fgpn%2Fiso7720&src-supplier=Digikey; ComponentLink3Description: http://www.ti.com/general/docs/suppproductinfo.tsp?distId=10&amp;gotoUrl=http%3A%2F%2Fwww.ti.com%2Flit%2Fgpn%2Fiso7720&src-supplier=Digikey
footprint FP-D0008B-MFG
pins: 1 VCC1 (power), 2 OUTA, 3 INB, 4 GND1 (power), 5 GND2 (power), 6 OUTB, 7 INA, 8 VCC2 (power)

## JS202011SCQN
designator SW?
SWITCH SLIDE DPDT 300MA 6V; Switch Function: On-On; Actuator Type: Standard; Switch Travel: 2mm; Actuator Color: Black; Contact Resistance: 70mR; Electrical Life: 5000Cycles; Actuator Material: Nylon; REACH SVHC: No SVHC; Series: JS; Min Operating Temperature: -20°C; Depth: 7.5mm; Housing Material: Nylon; Voltage Rating (DC): 6V; Max Operating Temperature: 85°C; Contact Current Rating: 300mA; Package Quantity: 1; Contact Plating: Silver; Contact Material: Copper Alloy; Throw Configuration: DPDT; Current Rating: 300mA; Orientation: Vertical; Max Current Rating: 300mA; Max Voltage Rating (DC): 6V; Flammability Rating: UL94 V-2; Length: 9mm; Packaging: Tape and Reel; Mount: Surface Mount; Actuator Length: 2mm; Lead Free: Lead Free; Termination: Gull Wing; Radiation Hardening: No
footprint FP-JS202011SCQN-MFG
pins: 1, 2, 3, 4, 5, 6

## LQM2HPN3R3MG0L
designator L?  DC Resistance (DCR): 125mR  Inductance-Nom (L): 3.3uH  Case/Size Code: 1008  (hidden comment: LQM2HPN3R3MG0L)
FIXED IND 3.3UH 1.2A 125MOHM SMD; Manufacturer: Murata; Core Material: Ferrite; Tolerance: 20%; Inductor Application: RF INDUCTOR; Inductor Type: GENERAL PURPOSE INDUCTOR; Channels: 1; Self Resonant Frequency: 30MHz; Shape/Size Description: RECTANGULAR PACKAGE; Shielding: Shielded; Test Frequency: 1MHz; Package Height: 0.9mm; Package Length: 2.5mm; Package Width: 2mm; Supplier: Mouser; Supplier Part Number: 81-LQM2HPN3R3MG0L; Manufacturer Part Number: LQM2HPN3R3MG0L; RoHS: Yes; Category: Fixed Inductors; Stock: 8913; Pricing: 1=0.22, 10=0.14, 50=0.14, 100=0.106, 1000=0.09, 10000=0.071 (USD); Pins: 2; Terminal Finish: Tin; Min Operating Temperature: -55°C; Max Operating Temperature: 125°C; JESD-609 Code: e3; Construction: Multilayer Chip; Package Style: SMTMeter; Packaging: Tape and Reel; Max Current Rating: 1.2A; Surface Mount: Yes; Terminal Placement: Dual Ended; Termination: Wraparound; Reach SVHC Compliant: Yes; RoHS Compliant: Yes; ComponentLink1URL: https://psearch.en.murata.com:443/inductor/product/LQM2HPN3R3MG0_.pdf?src-supplier=IHS+Markit; ComponentLink1Description: https://psearch.en.murata.com:443/inductor/product/LQM2HPN3R3MG0_.pdf?src-supplier=IHS+Markit; ComponentLink2URL: https://datasheet.ciiva.com/30490/0900766b812561d9-30490184.pdf?src-supplier=Rs; ComponentLink2Description: https://datasheet.ciiva.com/30490/0900766b812561d9-30490184.pdf?src-supplier=Rs; ComponentLink3URL: https://datasheet.ciiva.com/1042/l0075s0104lqm2hp-g0-1042940.pdf?src-supplier=Digikey; ComponentLink3Description: https://datasheet.ciiva.com/1042/l0075s0104lqm2hp-g0-1042940.pdf?src-supplier=Digikey; ComponentLink4URL: https://datasheet.ciiva.com/1042/l0075s0104lqm2hp-g0-1042941.pdf?src-supplier=Digikey; ComponentLink4Description: https://datasheet.ciiva.com/1042/l0075s0104lqm2hp-g0-1042941.pdf?src-supplier=Digikey; ComponentLink5URL: https://datasheet.ciiva.com/1042/l0075s0104lqm2hp-g0-1042942.pdf?src-supplier=Digikey; ComponentLink5Description: https://datasheet.ciiva.com/1042/l0075s0104lqm2hp-g0-1042942.pdf?src-supplier=Digikey; ComponentLink6URL: https://datasheet.ciiva.com/8509/l0075s0104lqm2hp-g0-8509087.pdf?src-supplier=Avnet; ComponentLink6Description: https://datasheet.ciiva.com/8509/l0075s0104lqm2hp-g0-8509087.pdf?src-supplier=Avnet; Value: 3.3uH
footprint FP-LQM2HPN_G0-IPC_B
pins: 1, 2

## MEE1S0303SC
designator U?
DC DC CONVERTER 3.3V 1W; Manufacturer: Murata; Isolation: Isolated; Min Input Voltage (DC): 2.97V; Number of Outputs: 1; Current - Output 1: 303mA; Isolation Voltage: 1kV; Max Input Voltage (DC): 3.63V; Efficiency: 78.5%; Max Power Dissipation: 1W; Min Operating Temperature: -40°C; Number of Pins: 4; Output Power: 1W; Nominal Input Voltage: 3.3V; Case/Package: SIP; Radiation Hardening: No; Max Operating Temperature: 85°C; Voltage - Output 1: 3.3V; Nominal Output Voltage: 3.3V; Packaging: Rail/Tube; Height: 10mm; Output Current: 303mA; Package Quantity: 35; Depth: 6mm; Min Input Voltage: 2.97V; REACH SVHC: No SVHC; Weight: 1.28g; Length: 11.48mm; Max Output Current: 303mA; Output Voltage: 3.3V; Width: 0.24inch; Max Input Voltage: 3.63V; Mount: Through Hole; Max Output Power: 1W; Supplier: Digikey; Supplier Part Number: 811-2747-ND; Manufacturer Part Number: MEE1S0303SC; RoHS: Yes; Category: Board Mount Modules; Stock: 1522; Pricing: 1=5.26, 5=5.23, 10=5.2, 25=5.14, 50=5.01, 100=4.76, 250=4.46, 500=4.16002, 1000=3.89002 (USD); Mounting Technology: Through Hole; Pins: 4; Max Supply Voltage: 3.63V; Nominal Supply Voltage: 3.3V; Series: MEE1; Reach SVHC Compliant: No; RoHS Compliant: Yes; ComponentLink1URL: https://datasheet.ciiva.com/8218/kdc-mee1-8218285.pdf?src-supplier=Avnet; ComponentLink1Description: https://datasheet.ciiva.com/8218/kdc-mee1-8218285.pdf?src-supplier=Avnet
footprint FP-MEE1S-SC-MFG
pins: 1 -Vin (power), 2 +Vin (power), 3 -Vout (power), 4 +Vout (power)

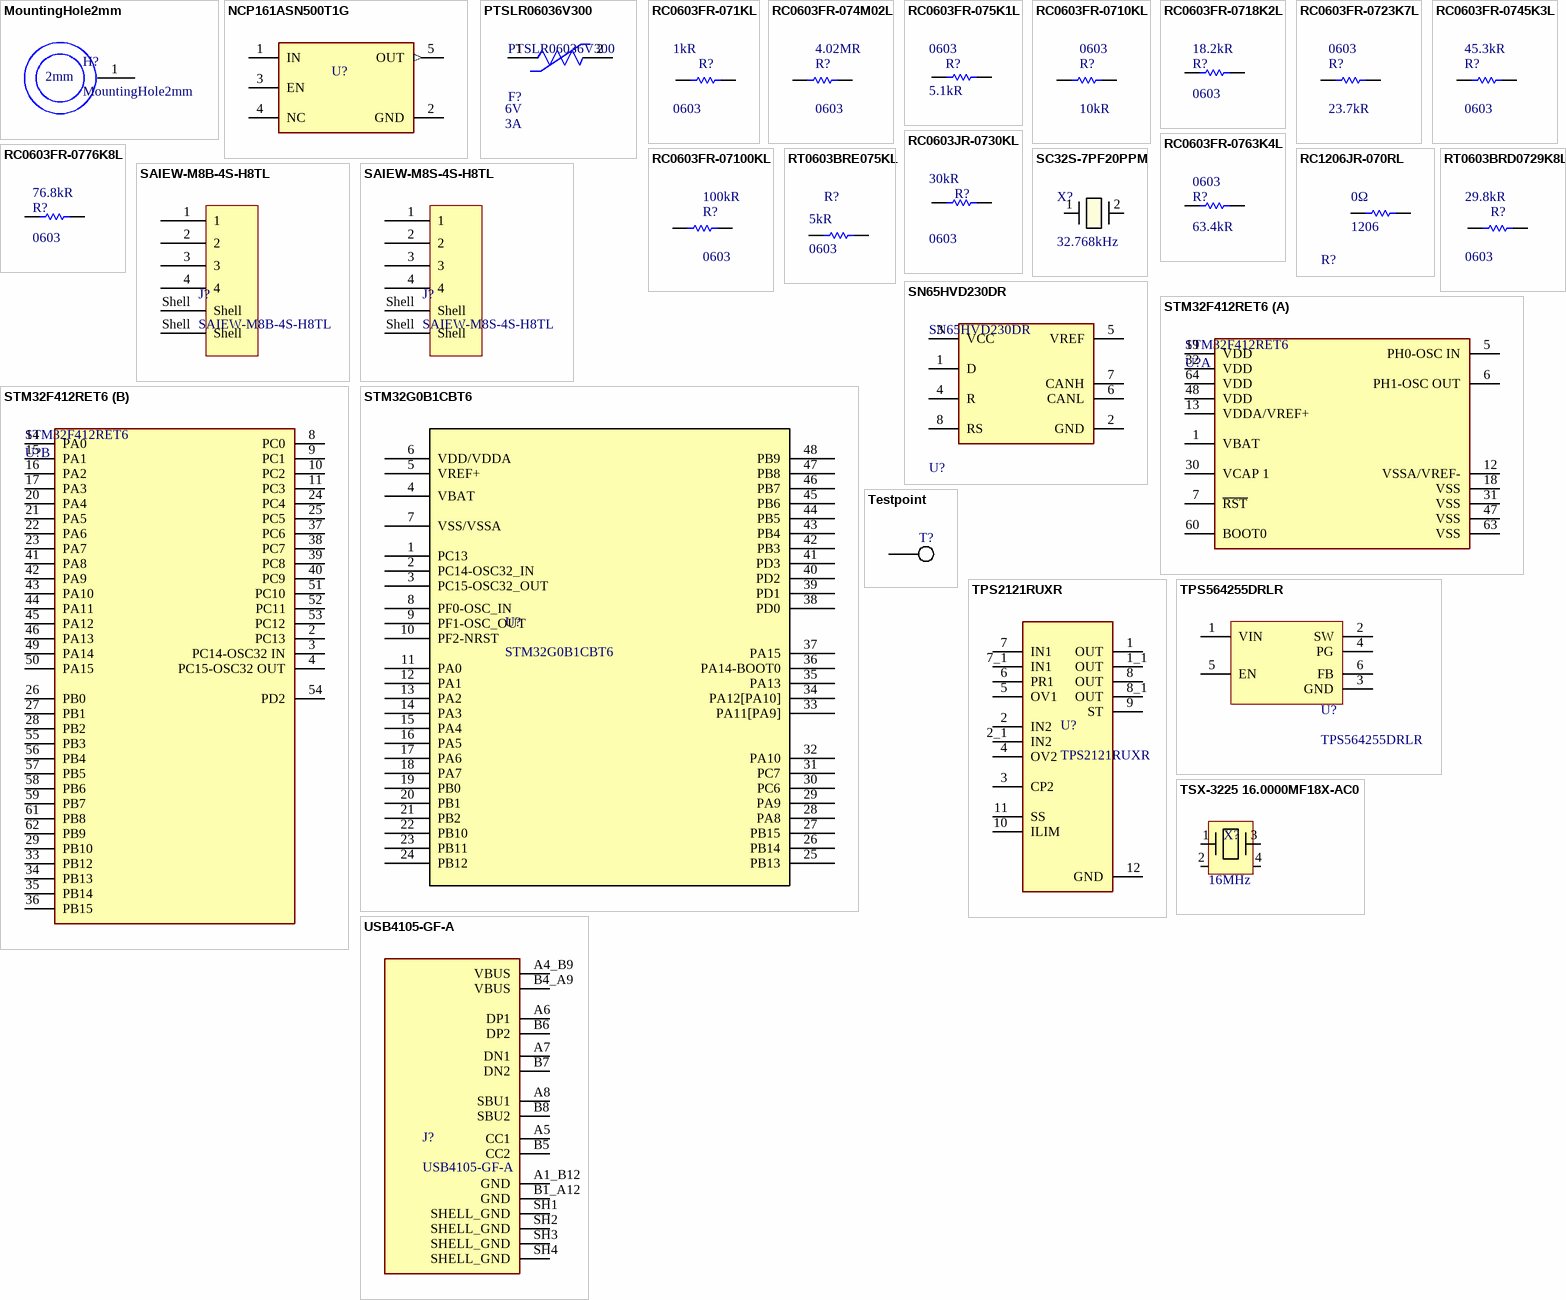
[diagram p1: symbols MountingHole2mm to USB4105-GF-A]

## MountingHole2mm
designator H?
Mounting Hole 2mm
footprint MOUNTINGHOLE2MM
pins: 1
text: 2mm